# EAGLE library part STSPIN958TR (library STSPIN958TR)
Scalable 5 A full-bridge driver for brushed DC motors Source: Datasheet <https://www.st.com/resource/en/datasheet/stspin958.pdf>
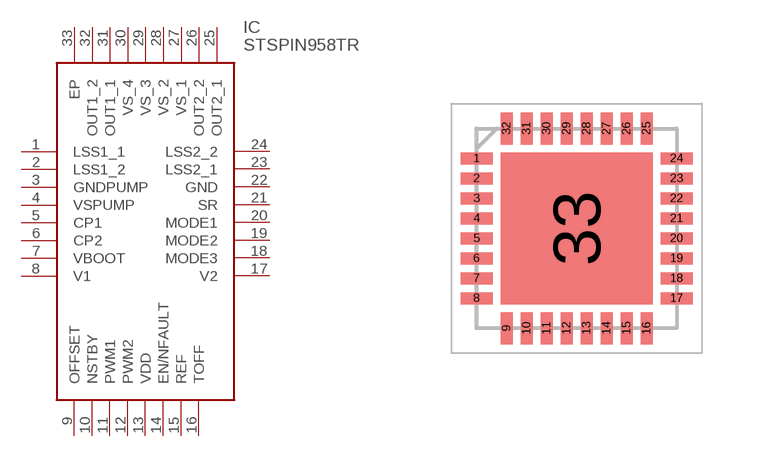
[diagram p0: symbol with the pads of QFN50P500X500X100-33N; footprint QFN50P500X500X100-33N]

Designator prefix IC

## STSPIN958TR (Description: Scalable 5 A full-bridge driver for brushed DC motors; Height: 1mm; Manufacturer_Name: STMicroelectronics; Manufacturer_Part_Number: STSPIN958TR; Mouser_Part_Number: 511-STSPIN958TR; Mouser_Price-Stock: https://www.mouser.co.uk/ProductDetail/STMicroelectronics/STSPIN958TR?qs=1Kr7Jg1SGW%2FtOdIzCOSgPQ%3D%3D)  [QFN50P500X500X100-33N]
1  LSS1_1
2  LSS1_2
3  GNDPUMP
4  VSPUMP
5  CP1
6  CP2
7  VBOOT
8  V1
9  OFFSET
10  NSTBY
11  PWM1
12  PWM2
13  VDD
14  EN/NFAULT
15  REF
16  TOFF
17  V2
18  MODE3
19  MODE2
20  MODE1
21  SR
22  GND
23  LSS2_1
24  LSS2_2
25  OUT2_1
26  OUT2_2
27  VS_1
28  VS_2
29  VS_3
30  VS_4
31  OUT1_1
32  OUT1_2
33  EP

## Footprint QFN50P500X500X100-33N (pad centres in mm)
STSPIN958TR
smd 0.8 x 0.3: 1 -2.5,1.75; 2 -2.5,1.25; 3 -2.5,0.75; 4 -2.5,0.25; 5 -2.5,-0.25; 6 -2.5,-0.75; 7 -2.5,-1.25; 8 -2.5,-1.75; 17 2.5,-1.75; 18 2.5,-1.25; 19 2.5,-0.75; 20 2.5,-0.25; 21 2.5,0.25; 22 2.5,0.75; 23 2.5,1.25; 24 2.5,1.75
smd 0.3 x 0.8: 9 -1.75,-2.5; 10 -1.25,-2.5; 11 -0.75,-2.5; 12 -0.25,-2.5; 13 0.25,-2.5; 14 0.75,-2.5; 15 1.25,-2.5; 16 1.75,-2.5; 25 1.75,2.5; 26 1.25,2.5; 27 0.75,2.5; 28 0.25,2.5; 29 -0.25,2.5; 30 -0.75,2.5; 31 -1.25,2.5; 32 -1.75,2.5
smd 3.8 x 3.8: 33 0,0